# EAGLE library part ERM8-030-01-D-RA (library con-samtec-er8)
ERM8 Series - Male Right Angle Edge Mount
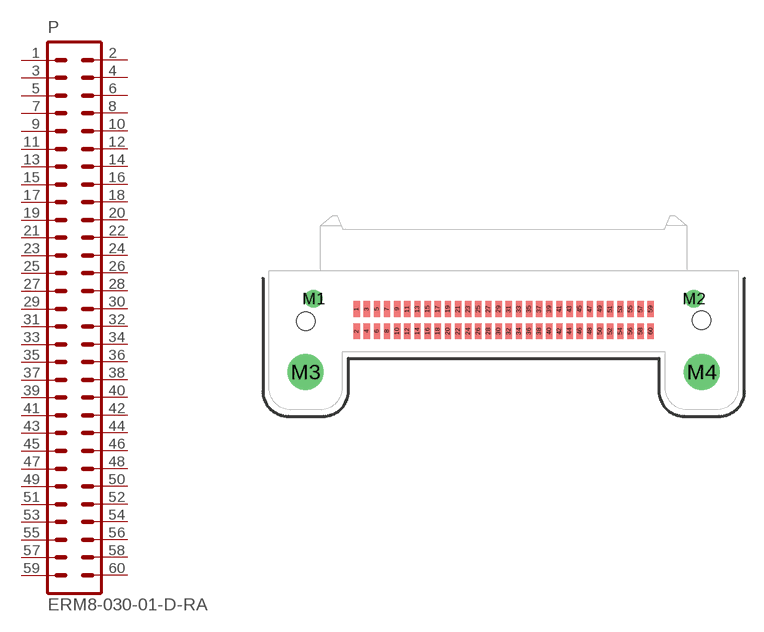
[diagram p25: symbol with the pads of ERM8-030-01-D-RA; footprint ERM8-030-01-D-RA]

Designator prefix P

## ERM8-030-01-D-RA  [ERM8-030-01-D-RA]
1  1  pas
2  2  pas
3  3  pas
4  4  pas
5  5  pas
6  6  pas
7  7  pas
8  8  pas
9  9  pas
10  10  pas
11  11  pas
12  12  pas
13  13  pas
14  14  pas
15  15  pas
16  16  pas
17  17  pas
18  18  pas
19  19  pas
20  20  pas
21  21  pas
22  22  pas
23  23  pas
24  24  pas
25  25  pas
26  26  pas
27  27  pas
28  28  pas
29  29  pas
30  30  pas
31  31  pas
32  32  pas
33  33  pas
34  34  pas
35  35  pas
36  36  pas
37  37  pas
38  38  pas
39  39  pas
40  40  pas
41  41  pas
42  42  pas
43  43  pas
44  44  pas
45  45  pas
46  46  pas
47  47  pas
48  48  pas
49  49  pas
50  50  pas
51  51  pas
52  52  pas
53  53  pas
54  54  pas
55  55  pas
56  56  pas
57  57  pas
58  58  pas
59  59  pas
60  60  pas

## Footprint ERM8-030-01-D-RA (pad centres in mm)
0.8mm Edge Rate Terminal Assembly MALE, Right Angle Double Row, 30 Position
smd 0.5 x 1.25: 1 -11.6,0.875; 2 -11.6,-0.875; 3 -10.8,0.875; 4 -10.8,-0.875; 5 -10,0.875; 6 -10,-0.875; 7 -9.2,0.875; 8 -9.2,-0.875; 9 -8.4,0.875; 10 -8.4,-0.875; 11 -7.6,0.875; 12 -7.6,-0.875; 13 -6.8,0.875; 14 -6.8,-0.875; 15 -6,0.875; 16 -6,-0.875; 17 -5.2,0.875; 18 -5.2,-0.875; 19 -4.4,0.875; 20 -4.4,-0.875; 21 -3.6,0.875; 22 -3.6,-0.875; 23 -2.8,0.875; 24 -2.8,-0.875; 25 -2,0.875; 26 -2,-0.875; 27 -1.2,0.875; 28 -1.2,-0.875; 29 -0.4,0.875; 30 -0.4,-0.875; 31 0.4,0.875; 32 0.4,-0.875; 33 1.2,0.875; 34 1.2,-0.875; 35 2,0.875; 36 2,-0.875; 37 2.8,0.875; 38 2.8,-0.875; 39 3.6,0.875; 40 3.6,-0.875; 41 4.4,0.875; 42 4.4,-0.875; 43 5.2,0.875; 44 5.2,-0.875; 45 6,0.875; 46 6,-0.875; 47 6.8,0.875; 48 6.8,-0.875; 49 7.6,0.875; 50 7.6,-0.875; 51 8.4,0.875; 52 8.4,-0.875; 53 9.2,0.875; 54 9.2,-0.875; 55 10,0.875; 56 10,-0.875; 57 10.8,0.875; 58 10.8,-0.875; 59 11.6,0.875; 60 11.6,-0.875
drill 0.7 pad 1.4 round: M1 -15,1.69; M2 15,1.69
drill 1.91 pad 2.5 round: M3 -15.625,-4.09; M4 15.625,-4.09
hole 1.45 at -15.625,-0.09
hole 1.45 at 15.625,0